# EAGLE library part 7508114310 (library WE-OLRM)
WE-OLRM RM-Style Offline Flyback Transformers Characteristics Reinforced insulation Extended rail Vertical core direction Universal input Compact Grounded core for improved EMI performance Applications White goods Offline flyback applications Industrial controls LED lighting Smart adapters Metering <https://www.we-online.com/catalog/media/o93418v209%20Family_OLRM.jpg> Details see: www.we-online.com/en/components/products/WE-OLRM Created by Ella Wu 2023-04-11 2023 (C) Wurth Elektronik
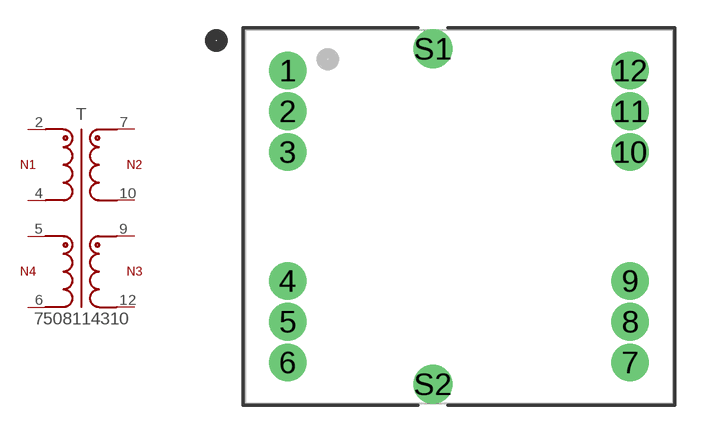
[diagram p9: symbol with the pads of WE-OLRM_RM6; footprint WE-OLRM_RM6]

Designator prefix T

## 7508114310 (DATASHEET-URL: https://www.we-online.com/redexpert/spec/7508114310?ae; F-SWTICH: 40 - 100kHz; HEIGHT: 15mm; IOUT1: 0.3A; IOUT2: 0.3A; ISAT1: 0.45A; L1: 4000µH; LENGTH: 20.07mm; MOUNT: THT; N: 10 : 1 : 1 : 2; PART-NUMBER: 7508114310; VALUE: 7508114310; VAUX: 24V; VIN: 100 - 265 V (AC); VOUT1: 12V; VOUT2: 12V; VT: 3900V (AC); WIDTH: 23mm)  [WE-OLRM_RM6]
2  2  pas
4  4  pas
5  5  pas
6  6  pas
7  7  pas
9  9  pas
10  10  pas
12  12  pas

## Footprint WE-OLRM_RM6 (pad centres in mm)
WE-OLRM RM-Style Offline Flyback Transformers Size: RM6,THT,12pins LXWXH=20.07X23X15mm
drill 1.35 pad 1.95: 1 -9.21,7.845; 2 -9.21,5.655; 3 -9.21,3.465; 4 -9.21,-3.465; 5 -9.21,-5.655; 6 -9.21,-7.845; 7 9.21,-7.845; 8 9.21,-5.655; 9 9.21,-3.465; 10 9.21,3.465; 11 9.21,5.655; 12 9.21,7.845
drill 1.4: S1 -1.41,9.015; S2 -1.41,-9.015